# EAGLE library part IRF6648 (library open-bldc)
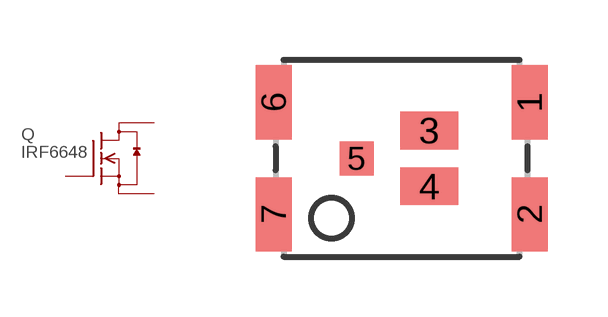
[diagram p23: symbol with the pads of DIRECTFET-MN; footprint DIRECTFET-MN]

Designator prefix Q

## IRF6648  [DIRECTFET-MN]
1  D1  pas
2  D2  pas
3  S1  pas
4  S2  pas
5  G  pas
6  D3  pas
7  D4  pas

## Footprint DIRECTFET-MN (pad centres in mm)
smd 0.9 x 1.85: 1 3.2,1.4; 2 3.2,-1.4; 6 -3.2,1.4; 7 -3.2,-1.4
smd 1.45 x 0.95: 3 0.695,0.7; 4 0.695,-0.7
smd 0.85 x 0.85: 5 -1.125,0